# Altium footprint library YellowLED.PcbLib: 3 footprints
Each footprint in its own frame and in the unit in brackets; x right, y up, seen from the top. Pads: shape width x height; smd on the part's side, far side on the other; paste and mask are expansions set on the pad; w line width, h text height; cw(c..) or ccw(c..) is an arc to the next point about the centre after c.
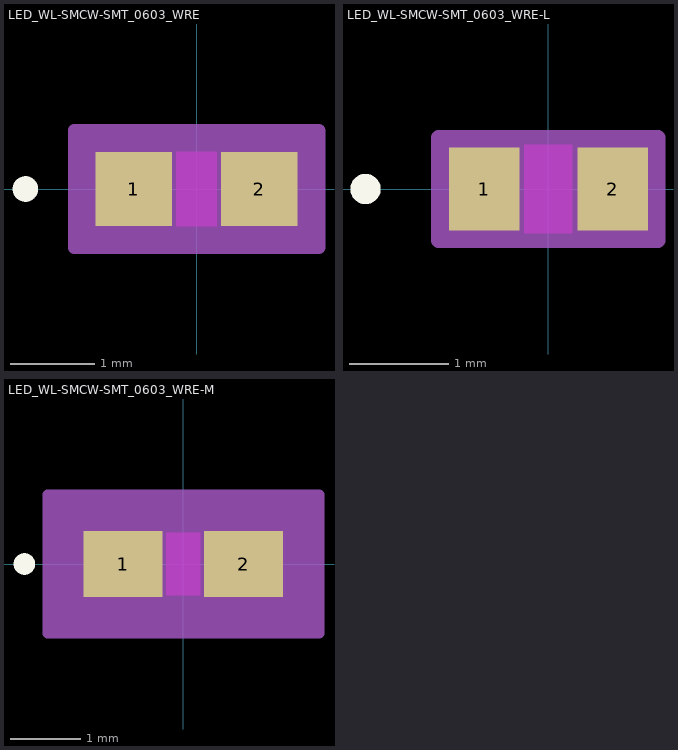
[diagram p0: the footprints below, top view; thin cyan lines are the x and y axes]

## LED_WL-SMCW-SMT_0603_WRE [mil]
pads (2):
  rect 36x35 smd paste+0 mask+0: 1(-29.5,0) 2(29.5,0)
Top Layer keep-out:
  region: -9.5,-15.5 -9.5,15.5 9.5,15.5 9.5,-15.5
Top Overlay:
  circle w6: c-80.5,0 r3
Keep-Out Layer:
  region: -9.5,-17.5 -9.5,17.5 9.5,17.5 9.5,-17.5
Mechanical 13:
  circle w0: c-24.5,0 r3
  lines w1: -33.5,-17.5 -33.5,17.5 ; -33.5,-17.5 33.5,-17.5 ; -33.5,-17.5 -11.5,-17.5 -11.5,17.5 -33.5,17.5 ; -33.5,-17.5 -33.5,17.5 ; -33.5,17.5 33.5,17.5 ; 33.5,-17.5 33.5,17.5 ; 33.5,-17.5 33.5,17.5 ; 33.5,-17.5 11.5,-17.5 11.5,17.5 33.5,17.5
Mechanical 15:
  region: 57.5,-27.5 -57.5,-27.5 -57.5,27.5 57.5,27.5
  lines w6: -57.5,-27.5 57.5,-27.5 57.5,27.5 -57.5,27.5 -57.5,-27.5
3D body "LED_WL-SMCW-SMT_0603_WRE.step": height 32.01, standoff 0, extent -33.5,-17.48 33.5,17.48

## LED_WL-SMCW-SMT_0603_WRE-L [mil]
pads (2):
  rect 28x33 smd paste+0 mask+0: 1(-25.5,0) 2(25.5,0)
Top Layer keep-out:
  region: -9.5,-15.5 -9.5,15.5 9.5,15.5 9.5,-15.5
Top Overlay:
  circle w6: c-72.5,0 r3
Keep-Out Layer:
  region: -9.5,-17.5 -9.5,17.5 9.5,17.5 9.5,-17.5
Mechanical 13:
  circle w0: c-20.5,0 r3
  lines w1: -33.5,-17.5 -33.5,17.5 ; -33.5,-17.5 -11.5,-17.5 -11.5,17.5 -33.5,17.5 ; -33.5,-17.5 33.5,-17.5 ; -33.5,-17.5 -33.5,17.5 ; -33.5,17.5 33.5,17.5 ; 33.5,-17.5 11.5,-17.5 11.5,17.5 33.5,17.5 ; 33.5,-17.5 33.5,17.5 ; 33.5,-17.5 33.5,17.5
Mechanical 15:
  region: 43.5,-20.5 -43.5,-20.5 -43.5,20.5 43.5,20.5
  lines w6: -43.5,-20.5 -43.5,20.5 43.5,20.5 43.5,-20.5 -43.5,-20.5
3D body "LED_WL-SMCW-SMT_0603_WRE.step": height 32.01, standoff 0, extent -33.5,-17.48 33.5,17.48

## LED_WL-SMCW-SMT_0603_WRE-M [mil]
pads (2):
  rect 44x37 smd paste+0 mask+0: 1(-33.5,0) 2(33.5,0)
Top Layer keep-out:
  region: -9.5,-15.5 -9.5,15.5 9.5,15.5 9.5,-15.5
Top Overlay:
  circle w6: c-88.5,0 r3
Keep-Out Layer:
  region: -9.5,-17.5 -9.5,17.5 9.5,17.5 9.5,-17.5
Mechanical 13:
  circle w0: c-28.5,0 r3
  lines w1: -33.5,-17.5 -33.5,17.5 ; -33.5,-17.5 -11.5,-17.5 -11.5,17.5 -33.5,17.5 ; -33.5,-17.5 33.5,-17.5 ; -33.5,-17.5 -33.5,17.5 ; -33.5,17.5 33.5,17.5 ; 33.5,-17.5 11.5,-17.5 11.5,17.5 33.5,17.5 ; 33.5,-17.5 33.5,17.5 ; 33.5,-17.5 33.5,17.5
Mechanical 15:
  region: 75.5,-38.5 -75.5,-38.5 -75.5,38.5 75.5,38.5
  lines w6: -75.5,-38.5 -75.5,38.5 75.5,38.5 75.5,-38.5 -75.5,-38.5
3D body "LED_WL-SMCW-SMT_0603_WRE.step": height 32.01, standoff 0, extent -33.5,-17.48 33.5,17.48